# Altium integrated library Resistors_CPF-0805.IntLib: 984 symbols (part 3 of 6)
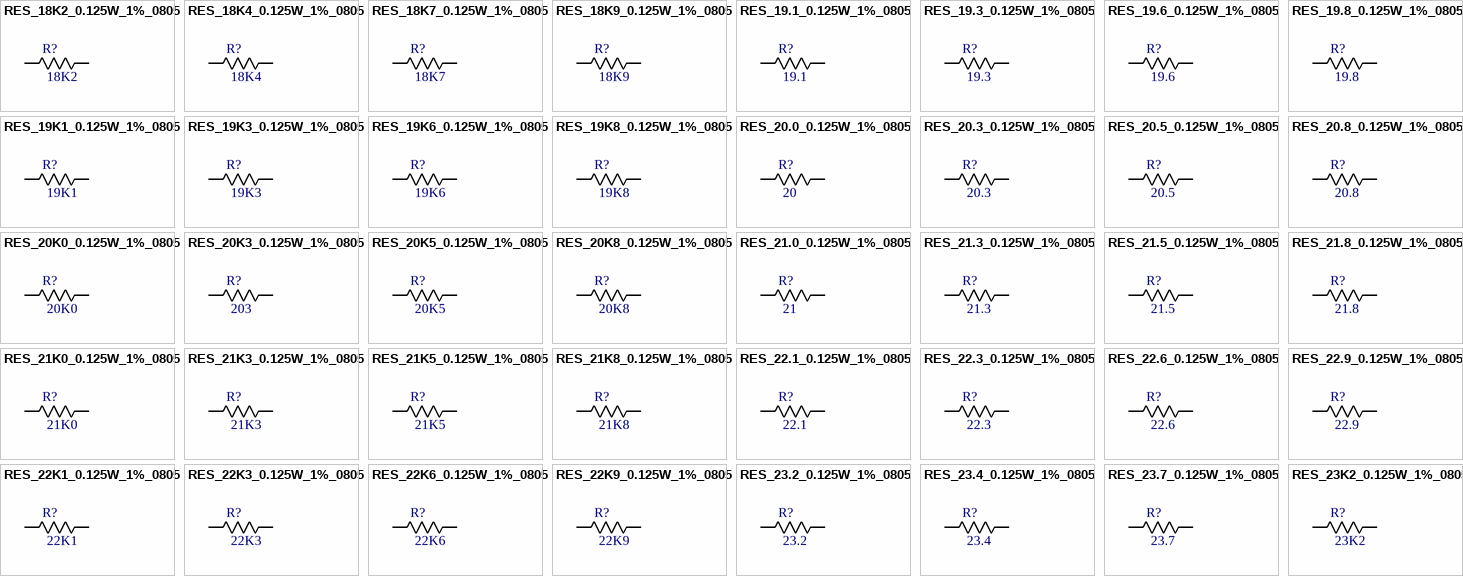
[diagram p26: symbols RES_18K2_0.125W_1%_0805 to RES_23K2_0.125W_1%_0805]

## RES_21.5_0.125W_1%_0805
designator R?, comment 21.5
Resistenza SMD TE Connectivity Film sottile; Voltage[V]: 100; Tollerance[%]: 0.1; Serie: CPF; Vendor: TE Connectivity; Type: Resistors; Package: 0805; Power[W]: 0.1; Value[OHM ]: 21.5
footprint RES_0816_SUS(My_MAXI)
pins: 1, 2

## RES_21.8_0.125W_1%_0805
designator R?, comment 21.8
Resistenza SMD TE Connectivity Film sottile; Voltage[V]: 100; Tollerance[%]: 0.1; Serie: CPF; Vendor: TE Connectivity; Type: Resistors; Package: 0805; Power[W]: 0.1; Value[OHM ]: 21.8
footprint RES_0816_SUS(My_MAXI)
pins: 1, 2

## RES_21K0_0.125W_1%_0805
designator R?, comment 21K0
Resistenza SMD TE Connectivity Film sottile; Voltage[V]: 100; Tollerance[%]: 0.1; Serie: CPF; Vendor: TE Connectivity; Type: Resistors; Package: 0805; Power[W]: 0.1; Value[OHM ]: 21K0
footprint RES_0816_SUS(My_MAXI)
pins: 1, 2

## RES_21K3_0.125W_1%_0805
designator R?, comment 21K3
Resistenza SMD TE Connectivity Film sottile; Voltage[V]: 100; Tollerance[%]: 0.1; Serie: CPF; Vendor: TE Connectivity; Type: Resistors; Package: 0805; Power[W]: 0.1; Value[OHM ]: 21K3
footprint RES_0816_SUS(My_MAXI)
pins: 1, 2

## RES_21K5_0.125W_1%_0805
designator R?, comment 21K5
Resistenza SMD TE Connectivity Film sottile; Voltage[V]: 100; Tollerance[%]: 0.1; Serie: CPF; Vendor: TE Connectivity; Type: Resistors; Package: 0805; Power[W]: 0.1; Value[OHM ]: 21K5
footprint RES_0816_SUS(My_MAXI)
pins: 1, 2

## RES_21K8_0.125W_1%_0805
designator R?, comment 21K8
Resistenza SMD TE Connectivity Film sottile; Voltage[V]: 100; Tollerance[%]: 0.1; Serie: CPF; Vendor: TE Connectivity; Type: Resistors; Package: 0805; Power[W]: 0.1; Value[OHM ]: 21K8
footprint RES_0816_SUS(My_MAXI)
pins: 1, 2

## RES_22.1_0.125W_1%_0805
designator R?, comment 22.1
Resistenza SMD TE Connectivity Film sottile; Voltage[V]: 100; Tollerance[%]: 0.1; Serie: CPF; Vendor: TE Connectivity; Type: Resistors; Package: 0805; Power[W]: 0.1; Value[OHM ]: 22.1
footprint RES_0816_SUS(My_MAXI)
pins: 1, 2

## RES_22.3_0.125W_1%_0805
designator R?, comment 22.3
Resistenza SMD TE Connectivity Film sottile; Voltage[V]: 100; Tollerance[%]: 0.1; Serie: CPF; Vendor: TE Connectivity; Type: Resistors; Package: 0805; Power[W]: 0.1; Value[OHM ]: 22.3
footprint RES_0816_SUS(My_MAXI)
pins: 1, 2

## RES_22.6_0.125W_1%_0805
designator R?, comment 22.6
Resistenza SMD TE Connectivity Film sottile; Voltage[V]: 100; Tollerance[%]: 0.1; Serie: CPF; Vendor: TE Connectivity; Type: Resistors; Package: 0805; Power[W]: 0.1; Value[OHM ]: 22.6
footprint RES_0816_SUS(My_MAXI)
pins: 1, 2

## RES_22.9_0.125W_1%_0805
designator R?, comment 22.9
Resistenza SMD TE Connectivity Film sottile; Voltage[V]: 100; Tollerance[%]: 0.1; Serie: CPF; Vendor: TE Connectivity; Type: Resistors; Package: 0805; Power[W]: 0.1; Value[OHM ]: 22.9
footprint RES_0816_SUS(My_MAXI)
pins: 1, 2

## RES_22K1_0.125W_1%_0805
designator R?, comment 22K1
Resistenza SMD TE Connectivity Film sottile; Voltage[V]: 100; Tollerance[%]: 0.1; Serie: CPF; Vendor: TE Connectivity; Type: Resistors; Package: 0805; Power[W]: 0.1; Value[OHM ]: 22K1
footprint RES_0816_SUS(My_MAXI)
pins: 1, 2

## RES_22K3_0.125W_1%_0805
designator R?, comment 22K3
Resistenza SMD TE Connectivity Film sottile; Voltage[V]: 100; Tollerance[%]: 0.1; Serie: CPF; Vendor: TE Connectivity; Type: Resistors; Package: 0805; Power[W]: 0.1; Value[OHM ]: 22K3
footprint RES_0816_SUS(My_MAXI)
pins: 1, 2

## RES_22K6_0.125W_1%_0805
designator R?, comment 22K6
Resistenza SMD TE Connectivity Film sottile; Voltage[V]: 100; Tollerance[%]: 0.1; Serie: CPF; Vendor: TE Connectivity; Type: Resistors; Package: 0805; Power[W]: 0.1; Value[OHM ]: 22K6
footprint RES_0816_SUS(My_MAXI)
pins: 1, 2

## RES_22K9_0.125W_1%_0805
designator R?, comment 22K9
Resistenza SMD TE Connectivity Film sottile; Voltage[V]: 100; Tollerance[%]: 0.1; Serie: CPF; Vendor: TE Connectivity; Type: Resistors; Package: 0805; Power[W]: 0.1; Value[OHM ]: 22K9
footprint RES_0816_SUS(My_MAXI)
pins: 1, 2

## RES_23.2_0.125W_1%_0805
designator R?, comment 23.2
Resistenza SMD TE Connectivity Film sottile; Voltage[V]: 100; Tollerance[%]: 0.1; Serie: CPF; Vendor: TE Connectivity; Type: Resistors; Package: 0805; Power[W]: 0.1; Value[OHM ]: 23.2
footprint RES_0816_SUS(My_MAXI)
pins: 1, 2

## RES_23.4_0.125W_1%_0805
designator R?, comment 23.4
Resistenza SMD TE Connectivity Film sottile; Voltage[V]: 100; Tollerance[%]: 0.1; Serie: CPF; Vendor: TE Connectivity; Type: Resistors; Package: 0805; Power[W]: 0.1; Value[OHM ]: 23.4
footprint RES_0816_SUS(My_MAXI)
pins: 1, 2

## RES_23.7_0.125W_1%_0805
designator R?, comment 23.7
Resistenza SMD TE Connectivity Film sottile; Voltage[V]: 100; Tollerance[%]: 0.1; Serie: CPF; Vendor: TE Connectivity; Type: Resistors; Package: 0805; Power[W]: 0.1; Value[OHM ]: 23.7
footprint RES_0816_SUS(My_MAXI)
pins: 1, 2

## RES_23K2_0.125W_1%_0805
designator R?, comment 23K2
Resistenza SMD TE Connectivity Film sottile; Voltage[V]: 100; Tollerance[%]: 0.1; Serie: CPF; Vendor: TE Connectivity; Type: Resistors; Package: 0805; Power[W]: 0.1; Value[OHM ]: 23K2
footprint RES_0816_SUS(My_MAXI)
pins: 1, 2

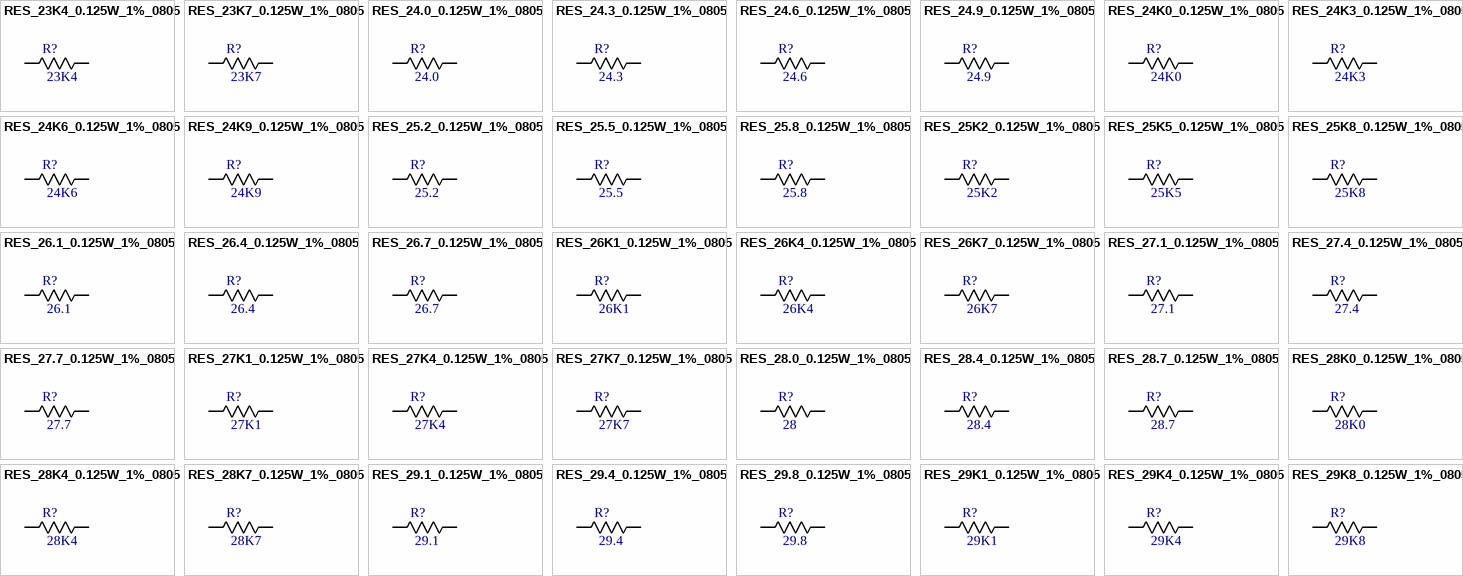
[diagram p9: symbols RES_23K4_0.125W_1%_0805 to RES_29K8_0.125W_1%_0805]

## RES_23K4_0.125W_1%_0805
designator R?, comment 23K4
Resistenza SMD TE Connectivity Film sottile; Voltage[V]: 100; Tollerance[%]: 0.1; Serie: CPF; Vendor: TE Connectivity; Type: Resistors; Package: 0805; Power[W]: 0.1; Value[OHM ]: 23K4
footprint RES_0816_SUS(My_MAXI)
pins: 1, 2

## RES_23K7_0.125W_1%_0805
designator R?, comment 23K7
Resistenza SMD TE Connectivity Film sottile; Voltage[V]: 100; Tollerance[%]: 0.1; Serie: CPF; Vendor: TE Connectivity; Type: Resistors; Package: 0805; Power[W]: 0.1; Value[OHM ]: 23K7
footprint RES_0816_SUS(My_MAXI)
pins: 1, 2

## RES_24.0_0.125W_1%_0805
designator R?, comment 24.0
Resistenza SMD TE Connectivity Film sottile; Voltage[V]: 100; Tollerance[%]: 0.1; Serie: CPF; Vendor: TE Connectivity; Type: Resistors; Package: 0805; Power[W]: 0.1; Value[OHM ]: 24.0
footprint RES_0816_SUS(My_MAXI)
pins: 1, 2

## RES_24.3_0.125W_1%_0805
designator R?, comment 24.3
Resistenza SMD TE Connectivity Film sottile; Voltage[V]: 100; Tollerance[%]: 0.1; Serie: CPF; Vendor: TE Connectivity; Type: Resistors; Package: 0805; Power[W]: 0.1; Value[OHM ]: 24.3
footprint RES_0816_SUS(My_MAXI)
pins: 1, 2

## RES_24.6_0.125W_1%_0805
designator R?, comment 24.6
Resistenza SMD TE Connectivity Film sottile; Voltage[V]: 100; Tollerance[%]: 0.1; Serie: CPF; Vendor: TE Connectivity; Type: Resistors; Package: 0805; Power[W]: 0.1; Value[OHM ]: 24.6
footprint RES_0816_SUS(My_MAXI)
pins: 1, 2

## RES_24.9_0.125W_1%_0805
designator R?, comment 24.9
Resistenza SMD TE Connectivity Film sottile; Voltage[V]: 100; Tollerance[%]: 0.1; Serie: CPF; Vendor: TE Connectivity; Type: Resistors; Package: 0805; Power[W]: 0.1; Value[OHM ]: 24.9
footprint RES_0816_SUS(My_MAXI)
pins: 1, 2

## RES_24K0_0.125W_1%_0805
designator R?, comment 24K0
Resistenza SMD TE Connectivity Film sottile; Voltage[V]: 100; Tollerance[%]: 0.1; Serie: CPF; Vendor: TE Connectivity; Type: Resistors; Package: 0805; Power[W]: 0.1; Value[OHM ]: 24K0
footprint RES_0816_SUS(My_MAXI)
pins: 1, 2

## RES_24K3_0.125W_1%_0805
designator R?, comment 24K3
Resistenza SMD TE Connectivity Film sottile; Voltage[V]: 100; Tollerance[%]: 0.1; Serie: CPF; Vendor: TE Connectivity; Type: Resistors; Package: 0805; Power[W]: 0.1; Value[OHM ]: 24K3
footprint RES_0816_SUS(My_MAXI)
pins: 1, 2

## RES_24K6_0.125W_1%_0805
designator R?, comment 24K6
Resistenza SMD TE Connectivity Film sottile; Voltage[V]: 100; Tollerance[%]: 0.1; Serie: CPF; Vendor: TE Connectivity; Type: Resistors; Package: 0805; Power[W]: 0.1; Value[OHM ]: 24K6
footprint RES_0816_SUS(My_MAXI)
pins: 1, 2

## RES_24K9_0.125W_1%_0805
designator R?, comment 24K9
Resistenza SMD TE Connectivity Film sottile; Voltage[V]: 100; Tollerance[%]: 0.1; Serie: CPF; Vendor: TE Connectivity; Type: Resistors; Package: 0805; Power[W]: 0.1; Value[OHM ]: 24K9
footprint RES_0816_SUS(My_MAXI)
pins: 1, 2

## RES_25.2_0.125W_1%_0805
designator R?, comment 25.2
Resistenza SMD TE Connectivity Film sottile; Voltage[V]: 100; Tollerance[%]: 0.1; Serie: CPF; Vendor: TE Connectivity; Type: Resistors; Package: 0805; Power[W]: 0.1; Value[OHM ]: 25.2
footprint RES_0816_SUS(My_MAXI)
pins: 1, 2

## RES_25.5_0.125W_1%_0805
designator R?, comment 25.5
Resistenza SMD TE Connectivity Film sottile; Voltage[V]: 100; Tollerance[%]: 0.1; Serie: CPF; Vendor: TE Connectivity; Type: Resistors; Package: 0805; Power[W]: 0.1; Value[OHM ]: 25.5
footprint RES_0816_SUS(My_MAXI)
pins: 1, 2

## RES_25.8_0.125W_1%_0805
designator R?, comment 25.8
Resistenza SMD TE Connectivity Film sottile; Voltage[V]: 100; Tollerance[%]: 0.1; Serie: CPF; Vendor: TE Connectivity; Type: Resistors; Package: 0805; Power[W]: 0.1; Value[OHM ]: 25.8
footprint RES_0816_SUS(My_MAXI)
pins: 1, 2

## RES_25K2_0.125W_1%_0805
designator R?, comment 25K2
Resistenza SMD TE Connectivity Film sottile; Voltage[V]: 100; Tollerance[%]: 0.1; Serie: CPF; Vendor: TE Connectivity; Type: Resistors; Package: 0805; Power[W]: 0.1; Value[OHM ]: 25K2
footprint RES_0816_SUS(My_MAXI)
pins: 1, 2

## RES_25K5_0.125W_1%_0805
designator R?, comment 25K5
Resistenza SMD TE Connectivity Film sottile; Voltage[V]: 100; Tollerance[%]: 0.1; Serie: CPF; Vendor: TE Connectivity; Type: Resistors; Package: 0805; Power[W]: 0.1; Value[OHM ]: 25K5
footprint RES_0816_SUS(My_MAXI)
pins: 1, 2

## RES_25K8_0.125W_1%_0805
designator R?, comment 25K8
Resistenza SMD TE Connectivity Film sottile; Voltage[V]: 100; Tollerance[%]: 0.1; Serie: CPF; Vendor: TE Connectivity; Type: Resistors; Package: 0805; Power[W]: 0.1; Value[OHM ]: 25K8
footprint RES_0816_SUS(My_MAXI)
pins: 1, 2

## RES_26.1_0.125W_1%_0805
designator R?, comment 26.1
Resistenza SMD TE Connectivity Film sottile; Voltage[V]: 100; Tollerance[%]: 0.1; Serie: CPF; Vendor: TE Connectivity; Type: Resistors; Package: 0805; Power[W]: 0.1; Value[OHM ]: 26.1
footprint RES_0816_SUS(My_MAXI)
pins: 1, 2

## RES_26.4_0.125W_1%_0805
designator R?, comment 26.4
Resistenza SMD TE Connectivity Film sottile; Voltage[V]: 100; Tollerance[%]: 0.1; Serie: CPF; Vendor: TE Connectivity; Type: Resistors; Package: 0805; Power[W]: 0.1; Value[OHM ]: 26.4
footprint RES_0816_SUS(My_MAXI)
pins: 1, 2

## RES_26.7_0.125W_1%_0805
designator R?, comment 26.7
Resistenza SMD TE Connectivity Film sottile; Voltage[V]: 100; Tollerance[%]: 0.1; Serie: CPF; Vendor: TE Connectivity; Type: Resistors; Package: 0805; Power[W]: 0.1; Value[OHM ]: 26.7
footprint RES_0816_SUS(My_MAXI)
pins: 1, 2

## RES_26K1_0.125W_1%_0805
designator R?, comment 26K1
Resistenza SMD TE Connectivity Film sottile; Voltage[V]: 100; Tollerance[%]: 0.1; Serie: CPF; Vendor: TE Connectivity; Type: Resistors; Package: 0805; Power[W]: 0.1; Value[OHM ]: 26K1
footprint RES_0816_SUS(My_MAXI)
pins: 1, 2

## RES_26K4_0.125W_1%_0805
designator R?, comment 26K4
Resistenza SMD TE Connectivity Film sottile; Voltage[V]: 100; Tollerance[%]: 0.1; Serie: CPF; Vendor: TE Connectivity; Type: Resistors; Package: 0805; Power[W]: 0.1; Value[OHM ]: 26K4
footprint RES_0816_SUS(My_MAXI)
pins: 1, 2

## RES_26K7_0.125W_1%_0805
designator R?, comment 26K7
Resistenza SMD TE Connectivity Film sottile; Voltage[V]: 100; Tollerance[%]: 0.1; Serie: CPF; Vendor: TE Connectivity; Type: Resistors; Package: 0805; Power[W]: 0.1; Value[OHM ]: 26K7
footprint RES_0816_SUS(My_MAXI)
pins: 1, 2

## RES_27.1_0.125W_1%_0805
designator R?, comment 27.1
Resistenza SMD TE Connectivity Film sottile; Voltage[V]: 100; Tollerance[%]: 0.1; Serie: CPF; Vendor: TE Connectivity; Type: Resistors; Package: 0805; Power[W]: 0.1; Value[OHM ]: 27.1
footprint RES_0816_SUS(My_MAXI)
pins: 1, 2

## RES_27.4_0.125W_1%_0805
designator R?, comment 27.4
Resistenza SMD TE Connectivity Film sottile; Voltage[V]: 100; Tollerance[%]: 0.1; Serie: CPF; Vendor: TE Connectivity; Type: Resistors; Package: 0805; Power[W]: 0.1; Value[OHM ]: 27.4
footprint RES_0816_SUS(My_MAXI)
pins: 1, 2

## RES_27.7_0.125W_1%_0805
designator R?, comment 27.7
Resistenza SMD TE Connectivity Film sottile; Voltage[V]: 100; Tollerance[%]: 0.1; Serie: CPF; Vendor: TE Connectivity; Type: Resistors; Package: 0805; Power[W]: 0.1; Value[OHM ]: 27.7
footprint RES_0816_SUS(My_MAXI)
pins: 1, 2

## RES_27K1_0.125W_1%_0805
designator R?, comment 27K1
Resistenza SMD TE Connectivity Film sottile; Voltage[V]: 100; Tollerance[%]: 0.1; Serie: CPF; Vendor: TE Connectivity; Type: Resistors; Package: 0805; Power[W]: 0.1; Value[OHM ]: 27K1
footprint RES_0816_SUS(My_MAXI)
pins: 1, 2

## RES_27K4_0.125W_1%_0805
designator R?, comment 27K4
Resistenza SMD TE Connectivity Film sottile; Voltage[V]: 100; Tollerance[%]: 0.1; Serie: CPF; Vendor: TE Connectivity; Type: Resistors; Package: 0805; Power[W]: 0.1; Value[OHM ]: 27K4
footprint RES_0816_SUS(My_MAXI)
pins: 1, 2

## RES_27K7_0.125W_1%_0805
designator R?, comment 27K7
Resistenza SMD TE Connectivity Film sottile; Voltage[V]: 100; Tollerance[%]: 0.1; Serie: CPF; Vendor: TE Connectivity; Type: Resistors; Package: 0805; Power[W]: 0.1; Value[OHM ]: 27K7
footprint RES_0816_SUS(My_MAXI)
pins: 1, 2

## RES_28.0_0.125W_1%_0805
designator R?, comment 28
Resistenza SMD TE Connectivity Film sottile; Voltage[V]: 100; Tollerance[%]: 0.1; Serie: CPF; Vendor: TE Connectivity; Type: Resistors; Package: 0805; Power[W]: 0.1; Value[OHM ]: 28
footprint RES_0816_SUS(My_MAXI)
pins: 1, 2

## RES_28.4_0.125W_1%_0805
designator R?, comment 28.4
Resistenza SMD TE Connectivity Film sottile; Voltage[V]: 100; Tollerance[%]: 0.1; Serie: CPF; Vendor: TE Connectivity; Type: Resistors; Package: 0805; Power[W]: 0.1; Value[OHM ]: 28.4
footprint RES_0816_SUS(My_MAXI)
pins: 1, 2

## RES_28.7_0.125W_1%_0805
designator R?, comment 28.7
Resistenza SMD TE Connectivity Film sottile; Voltage[V]: 100; Tollerance[%]: 0.1; Serie: CPF; Vendor: TE Connectivity; Type: Resistors; Package: 0805; Power[W]: 0.1; Value[OHM ]: 28.7
footprint RES_0816_SUS(My_MAXI)
pins: 1, 2

## RES_28K0_0.125W_1%_0805
designator R?, comment 28K0
Resistenza SMD TE Connectivity Film sottile; Voltage[V]: 100; Tollerance[%]: 0.1; Serie: CPF; Vendor: TE Connectivity; Type: Resistors; Package: 0805; Power[W]: 0.1; Value[OHM ]: 28K0
footprint RES_0816_SUS(My_MAXI)
pins: 1, 2

## RES_28K4_0.125W_1%_0805
designator R?, comment 28K4
Resistenza SMD TE Connectivity Film sottile; Voltage[V]: 100; Tollerance[%]: 0.1; Serie: CPF; Vendor: TE Connectivity; Type: Resistors; Package: 0805; Power[W]: 0.1; Value[OHM ]: 28K4
footprint RES_0816_SUS(My_MAXI)
pins: 1, 2

## RES_28K7_0.125W_1%_0805
designator R?, comment 28K7
Resistenza SMD TE Connectivity Film sottile; Voltage[V]: 100; Tollerance[%]: 0.1; Serie: CPF; Vendor: TE Connectivity; Type: Resistors; Package: 0805; Power[W]: 0.1; Value[OHM ]: 28K7
footprint RES_0816_SUS(My_MAXI)
pins: 1, 2

## RES_29.1_0.125W_1%_0805
designator R?, comment 29.1
Resistenza SMD TE Connectivity Film sottile; Voltage[V]: 100; Tollerance[%]: 0.1; Serie: CPF; Vendor: TE Connectivity; Type: Resistors; Package: 0805; Power[W]: 0.1; Value[OHM ]: 29.1
footprint RES_0816_SUS(My_MAXI)
pins: 1, 2

## RES_29.4_0.125W_1%_0805
designator R?, comment 29.4
Resistenza SMD TE Connectivity Film sottile; Voltage[V]: 100; Tollerance[%]: 0.1; Serie: CPF; Vendor: TE Connectivity; Type: Resistors; Package: 0805; Power[W]: 0.1; Value[OHM ]: 29.4
footprint RES_0816_SUS(My_MAXI)
pins: 1, 2

## RES_29.8_0.125W_1%_0805
designator R?, comment 29.8
Resistenza SMD TE Connectivity Film sottile; Voltage[V]: 100; Tollerance[%]: 0.1; Serie: CPF; Vendor: TE Connectivity; Type: Resistors; Package: 0805; Power[W]: 0.1; Value[OHM ]: 29.8
footprint RES_0816_SUS(My_MAXI)
pins: 1, 2

## RES_29K1_0.125W_1%_0805
designator R?, comment 29K1
Resistenza SMD TE Connectivity Film sottile; Voltage[V]: 100; Tollerance[%]: 0.1; Serie: CPF; Vendor: TE Connectivity; Type: Resistors; Package: 0805; Power[W]: 0.1; Value[OHM ]: 29K1
footprint RES_0816_SUS(My_MAXI)
pins: 1, 2

## RES_29K4_0.125W_1%_0805
designator R?, comment 29K4
Resistenza SMD TE Connectivity Film sottile; Voltage[V]: 100; Tollerance[%]: 0.1; Serie: CPF; Vendor: TE Connectivity; Type: Resistors; Package: 0805; Power[W]: 0.1; Value[OHM ]: 29K4
footprint RES_0816_SUS(My_MAXI)
pins: 1, 2

## RES_29K8_0.125W_1%_0805
designator R?, comment 29K8
Resistenza SMD TE Connectivity Film sottile; Voltage[V]: 100; Tollerance[%]: 0.1; Serie: CPF; Vendor: TE Connectivity; Type: Resistors; Package: 0805; Power[W]: 0.1; Value[OHM ]: 29K8
footprint RES_0816_SUS(My_MAXI)
pins: 1, 2

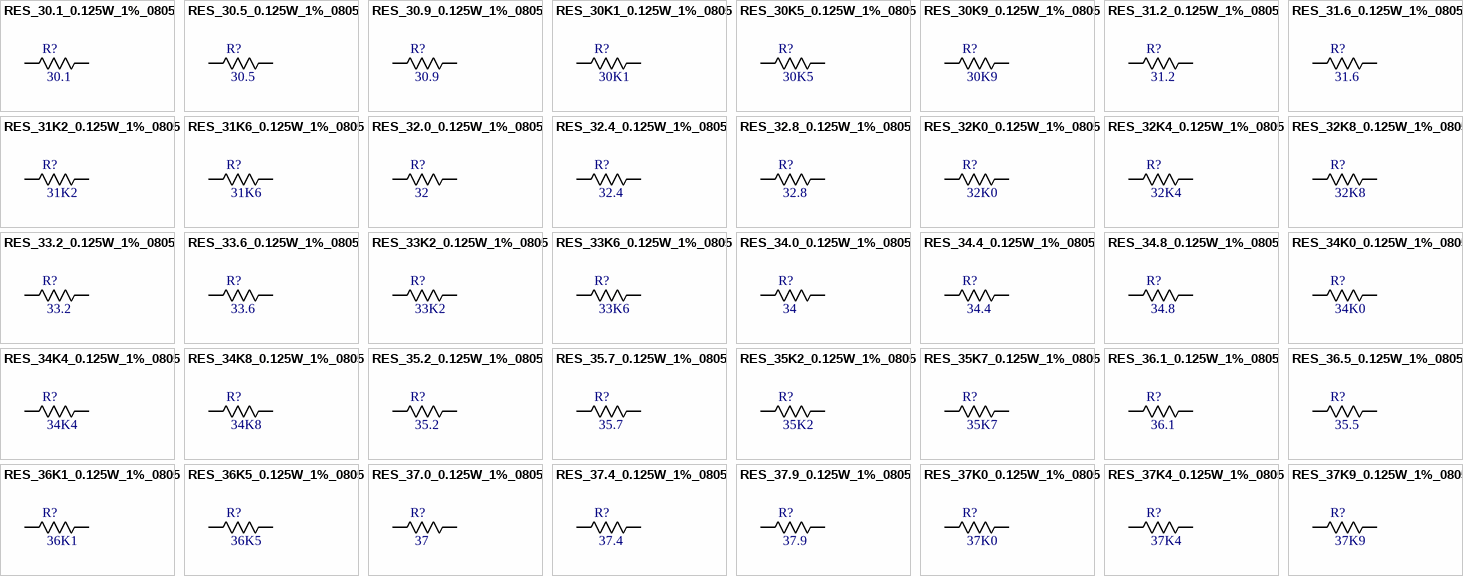
[diagram p10: symbols RES_30.1_0.125W_1%_0805 to RES_37K9_0.125W_1%_0805]

## RES_30.1_0.125W_1%_0805
designator R?, comment 30.1
Resistenza SMD TE Connectivity Film sottile; Voltage[V]: 100; Tollerance[%]: 0.1; Serie: CPF; Vendor: TE Connectivity; Type: Resistors; Package: 0805; Power[W]: 0.1; Value[OHM ]: 30.1
footprint RES_0816_SUS(My_MAXI)
pins: 1, 2

## RES_30.5_0.125W_1%_0805
designator R?, comment 30.5
Resistenza SMD TE Connectivity Film sottile; Voltage[V]: 100; Tollerance[%]: 0.1; Serie: CPF; Vendor: TE Connectivity; Type: Resistors; Package: 0805; Power[W]: 0.1; Value[OHM ]: 30.5
footprint RES_0816_SUS(My_MAXI)
pins: 1, 2

## RES_30.9_0.125W_1%_0805
designator R?, comment 30.9
Resistenza SMD TE Connectivity Film sottile; Voltage[V]: 100; Tollerance[%]: 0.1; Serie: CPF; Vendor: TE Connectivity; Type: Resistors; Package: 0805; Power[W]: 0.1; Value[OHM ]: 30.9
footprint RES_0816_SUS(My_MAXI)
pins: 1, 2

## RES_30K1_0.125W_1%_0805
designator R?, comment 30K1
Resistenza SMD TE Connectivity Film sottile; Voltage[V]: 100; Tollerance[%]: 0.1; Serie: CPF; Vendor: TE Connectivity; Type: Resistors; Package: 0805; Power[W]: 0.1; Value[OHM ]: 30K1
footprint RES_0816_SUS(My_MAXI)
pins: 1, 2

## RES_30K5_0.125W_1%_0805
designator R?, comment 30K5
Resistenza SMD TE Connectivity Film sottile; Voltage[V]: 100; Tollerance[%]: 0.1; Serie: CPF; Vendor: TE Connectivity; Type: Resistors; Package: 0805; Power[W]: 0.1; Value[OHM ]: 30K5
footprint RES_0816_SUS(My_MAXI)
pins: 1, 2

## RES_30K9_0.125W_1%_0805
designator R?, comment 30K9
Resistenza SMD TE Connectivity Film sottile; Voltage[V]: 100; Tollerance[%]: 0.1; Serie: CPF; Vendor: TE Connectivity; Type: Resistors; Package: 0805; Power[W]: 0.1; Value[OHM ]: 30K9
footprint RES_0816_SUS(My_MAXI)
pins: 1, 2

## RES_31.2_0.125W_1%_0805
designator R?, comment 31.2
Resistenza SMD TE Connectivity Film sottile; Voltage[V]: 100; Tollerance[%]: 0.1; Serie: CPF; Vendor: TE Connectivity; Type: Resistors; Package: 0805; Power[W]: 0.1; Value[OHM ]: 31.2
footprint RES_0816_SUS(My_MAXI)
pins: 1, 2

## RES_31.6_0.125W_1%_0805
designator R?, comment 31.6
Resistenza SMD TE Connectivity Film sottile; Voltage[V]: 100; Tollerance[%]: 0.1; Serie: CPF; Vendor: TE Connectivity; Type: Resistors; Package: 0805; Power[W]: 0.1; Value[OHM ]: 31.6
footprint RES_0816_SUS(My_MAXI)
pins: 1, 2

## RES_31K2_0.125W_1%_0805
designator R?, comment 31K2
Resistenza SMD TE Connectivity Film sottile; Voltage[V]: 100; Tollerance[%]: 0.1; Serie: CPF; Vendor: TE Connectivity; Type: Resistors; Package: 0805; Power[W]: 0.1; Value[OHM ]: 31K2
footprint RES_0816_SUS(My_MAXI)
pins: 1, 2

## RES_31K6_0.125W_1%_0805
designator R?, comment 31K6
Resistenza SMD TE Connectivity Film sottile; Voltage[V]: 100; Tollerance[%]: 0.1; Serie: CPF; Vendor: TE Connectivity; Type: Resistors; Package: 0805; Power[W]: 0.1; Value[OHM ]: 31K6
footprint RES_0816_SUS(My_MAXI)
pins: 1, 2

## RES_32.0_0.125W_1%_0805
designator R?, comment 32
Resistenza SMD TE Connectivity Film sottile; Voltage[V]: 100; Tollerance[%]: 0.1; Serie: CPF; Vendor: TE Connectivity; Type: Resistors; Package: 0805; Power[W]: 0.1; Value[OHM ]: 32
footprint RES_0816_SUS(My_MAXI)
pins: 1, 2

## RES_32.4_0.125W_1%_0805
designator R?, comment 32.4
Resistenza SMD TE Connectivity Film sottile; Voltage[V]: 100; Tollerance[%]: 0.1; Serie: CPF; Vendor: TE Connectivity; Type: Resistors; Package: 0805; Power[W]: 0.1; Value[OHM ]: 32.4
footprint RES_0816_SUS(My_MAXI)
pins: 1, 2

## RES_32.8_0.125W_1%_0805
designator R?, comment 32.8
Resistenza SMD TE Connectivity Film sottile; Voltage[V]: 100; Tollerance[%]: 0.1; Serie: CPF; Vendor: TE Connectivity; Type: Resistors; Package: 0805; Power[W]: 0.1; Value[OHM ]: 32.8
footprint RES_0816_SUS(My_MAXI)
pins: 1, 2

## RES_32K0_0.125W_1%_0805
designator R?, comment 32K0
Resistenza SMD TE Connectivity Film sottile; Voltage[V]: 100; Tollerance[%]: 0.1; Serie: CPF; Vendor: TE Connectivity; Type: Resistors; Package: 0805; Power[W]: 0.1; Value[OHM ]: 32K0
footprint RES_0816_SUS(My_MAXI)
pins: 1, 2

## RES_32K4_0.125W_1%_0805
designator R?, comment 32K4
Resistenza SMD TE Connectivity Film sottile; Voltage[V]: 100; Tollerance[%]: 0.1; Serie: CPF; Vendor: TE Connectivity; Type: Resistors; Package: 0805; Power[W]: 0.1; Value[OHM ]: 32K4
footprint RES_0816_SUS(My_MAXI)
pins: 1, 2

## RES_32K8_0.125W_1%_0805
designator R?, comment 32K8
Resistenza SMD TE Connectivity Film sottile; Voltage[V]: 100; Tollerance[%]: 0.1; Serie: CPF; Vendor: TE Connectivity; Type: Resistors; Package: 0805; Power[W]: 0.1; Value[OHM ]: 32K8
footprint RES_0816_SUS(My_MAXI)
pins: 1, 2

## RES_33.2_0.125W_1%_0805
designator R?, comment 33.2
Resistenza SMD TE Connectivity Film sottile; Voltage[V]: 100; Tollerance[%]: 0.1; Serie: CPF; Vendor: TE Connectivity; Type: Resistors; Package: 0805; Power[W]: 0.1; Value[OHM ]: 33.2
footprint RES_0816_SUS(My_MAXI)
pins: 1, 2

## RES_33.6_0.125W_1%_0805
designator R?, comment 33.6
Resistenza SMD TE Connectivity Film sottile; Voltage[V]: 100; Tollerance[%]: 0.1; Serie: CPF; Vendor: TE Connectivity; Type: Resistors; Package: 0805; Power[W]: 0.1; Value[OHM ]: 33.6
footprint RES_0816_SUS(My_MAXI)
pins: 1, 2

## RES_33K2_0.125W_1%_0805
designator R?, comment 33K2
Resistenza SMD TE Connectivity Film sottile; Voltage[V]: 100; Tollerance[%]: 0.1; Serie: CPF; Vendor: TE Connectivity; Type: Resistors; Package: 0805; Power[W]: 0.1; Value[OHM ]: 33K2
footprint RES_0816_SUS(My_MAXI)
pins: 1, 2

## RES_33K6_0.125W_1%_0805
designator R?, comment 33K6
Resistenza SMD TE Connectivity Film sottile; Voltage[V]: 100; Tollerance[%]: 0.1; Serie: CPF; Vendor: TE Connectivity; Type: Resistors; Package: 0805; Power[W]: 0.1; Value[OHM ]: 33K6
footprint RES_0816_SUS(My_MAXI)
pins: 1, 2

## RES_34.0_0.125W_1%_0805
designator R?, comment 34
Resistenza SMD TE Connectivity Film sottile; Voltage[V]: 100; Tollerance[%]: 0.1; Serie: CPF; Vendor: TE Connectivity; Type: Resistors; Package: 0805; Power[W]: 0.1; Value[OHM ]: 34
footprint RES_0816_SUS(My_MAXI)
pins: 1, 2

## RES_34.4_0.125W_1%_0805
designator R?, comment 34.4
Resistenza SMD TE Connectivity Film sottile; Voltage[V]: 100; Tollerance[%]: 0.1; Serie: CPF; Vendor: TE Connectivity; Type: Resistors; Package: 0805; Power[W]: 0.1; Value[OHM ]: 34.4
footprint RES_0816_SUS(My_MAXI)
pins: 1, 2

## RES_34.8_0.125W_1%_0805
designator R?, comment 34.8
Resistenza SMD TE Connectivity Film sottile; Voltage[V]: 100; Tollerance[%]: 0.1; Serie: CPF; Vendor: TE Connectivity; Type: Resistors; Package: 0805; Power[W]: 0.1; Value[OHM ]: 34.8
footprint RES_0816_SUS(My_MAXI)
pins: 1, 2

## RES_34K0_0.125W_1%_0805
designator R?, comment 34K0
Resistenza SMD TE Connectivity Film sottile; Voltage[V]: 100; Tollerance[%]: 0.1; Serie: CPF; Vendor: TE Connectivity; Type: Resistors; Package: 0805; Power[W]: 0.1; Value[OHM ]: 34K0
footprint RES_0816_SUS(My_MAXI)
pins: 1, 2

## RES_34K4_0.125W_1%_0805
designator R?, comment 34K4
Resistenza SMD TE Connectivity Film sottile; Voltage[V]: 100; Tollerance[%]: 0.1; Serie: CPF; Vendor: TE Connectivity; Type: Resistors; Package: 0805; Power[W]: 0.1; Value[OHM ]: 34K4
footprint RES_0816_SUS(My_MAXI)
pins: 1, 2

## RES_34K8_0.125W_1%_0805
designator R?, comment 34K8
Resistenza SMD TE Connectivity Film sottile; Voltage[V]: 100; Tollerance[%]: 0.1; Serie: CPF; Vendor: TE Connectivity; Type: Resistors; Package: 0805; Power[W]: 0.1; Value[OHM ]: 34K8
footprint RES_0816_SUS(My_MAXI)
pins: 1, 2

## RES_35.2_0.125W_1%_0805
designator R?, comment 35.2
Resistenza SMD TE Connectivity Film sottile; Voltage[V]: 100; Tollerance[%]: 0.1; Serie: CPF; Vendor: TE Connectivity; Type: Resistors; Package: 0805; Power[W]: 0.1; Value[OHM ]: 35.2
footprint RES_0816_SUS(My_MAXI)
pins: 1, 2

## RES_35.7_0.125W_1%_0805
designator R?, comment 35.7
Resistenza SMD TE Connectivity Film sottile; Voltage[V]: 100; Tollerance[%]: 0.1; Serie: CPF; Vendor: TE Connectivity; Type: Resistors; Package: 0805; Power[W]: 0.1; Value[OHM ]: 35.7
footprint RES_0816_SUS(My_MAXI)
pins: 1, 2

## RES_35K2_0.125W_1%_0805
designator R?, comment 35K2
Resistenza SMD TE Connectivity Film sottile; Voltage[V]: 100; Tollerance[%]: 0.1; Serie: CPF; Vendor: TE Connectivity; Type: Resistors; Package: 0805; Power[W]: 0.1; Value[OHM ]: 35K2
footprint RES_0816_SUS(My_MAXI)
pins: 1, 2

## RES_35K7_0.125W_1%_0805
designator R?, comment 35K7
Resistenza SMD TE Connectivity Film sottile; Voltage[V]: 100; Tollerance[%]: 0.1; Serie: CPF; Vendor: TE Connectivity; Type: Resistors; Package: 0805; Power[W]: 0.1; Value[OHM ]: 35K7
footprint RES_0816_SUS(My_MAXI)
pins: 1, 2

## RES_36.1_0.125W_1%_0805
designator R?, comment 36.1
Resistenza SMD TE Connectivity Film sottile; Voltage[V]: 100; Tollerance[%]: 0.1; Serie: CPF; Vendor: TE Connectivity; Type: Resistors; Package: 0805; Power[W]: 0.1; Value[OHM ]: 36.1
footprint RES_0816_SUS(My_MAXI)
pins: 1, 2

## RES_36.5_0.125W_1%_0805
designator R?, comment 35.5
Resistenza SMD TE Connectivity Film sottile; Voltage[V]: 100; Tollerance[%]: 0.1; Serie: CPF; Vendor: TE Connectivity; Type: Resistors; Package: 0805; Power[W]: 0.1; Value[OHM ]: 35.5
footprint RES_0816_SUS(My_MAXI)
pins: 1, 2

## RES_36K1_0.125W_1%_0805
designator R?, comment 36K1
Resistenza SMD TE Connectivity Film sottile; Voltage[V]: 100; Tollerance[%]: 0.1; Serie: CPF; Vendor: TE Connectivity; Type: Resistors; Package: 0805; Power[W]: 0.1; Value[OHM ]: 36K1
footprint RES_0816_SUS(My_MAXI)
pins: 1, 2

## RES_36K5_0.125W_1%_0805
designator R?, comment 36K5
Resistenza SMD TE Connectivity Film sottile; Voltage[V]: 100; Tollerance[%]: 0.1; Serie: CPF; Vendor: TE Connectivity; Type: Resistors; Package: 0805; Power[W]: 0.1; Value[OHM ]: 36K5
footprint RES_0816_SUS(My_MAXI)
pins: 1, 2

## RES_37.0_0.125W_1%_0805
designator R?, comment 37
Resistenza SMD TE Connectivity Film sottile; Voltage[V]: 100; Tollerance[%]: 0.1; Serie: CPF; Vendor: TE Connectivity; Type: Resistors; Package: 0805; Power[W]: 0.1; Value[OHM ]: 37
footprint RES_0816_SUS(My_MAXI)
pins: 1, 2

## RES_37.4_0.125W_1%_0805
designator R?, comment 37.4
Resistenza SMD TE Connectivity Film sottile; Voltage[V]: 100; Tollerance[%]: 0.1; Serie: CPF; Vendor: TE Connectivity; Type: Resistors; Package: 0805; Power[W]: 0.1; Value[OHM ]: 37.4
footprint RES_0816_SUS(My_MAXI)
pins: 1, 2

## RES_37.9_0.125W_1%_0805
designator R?, comment 37.9
Resistenza SMD TE Connectivity Film sottile; Voltage[V]: 100; Tollerance[%]: 0.1; Serie: CPF; Vendor: TE Connectivity; Type: Resistors; Package: 0805; Power[W]: 0.1; Value[OHM ]: 37.9
footprint RES_0816_SUS(My_MAXI)
pins: 1, 2

## RES_37K0_0.125W_1%_0805
designator R?, comment 37K0
Resistenza SMD TE Connectivity Film sottile; Voltage[V]: 100; Tollerance[%]: 0.1; Serie: CPF; Vendor: TE Connectivity; Type: Resistors; Package: 0805; Power[W]: 0.1; Value[OHM ]: 37K0
footprint RES_0816_SUS(My_MAXI)
pins: 1, 2

## RES_37K4_0.125W_1%_0805
designator R?, comment 37K4
Resistenza SMD TE Connectivity Film sottile; Voltage[V]: 100; Tollerance[%]: 0.1; Serie: CPF; Vendor: TE Connectivity; Type: Resistors; Package: 0805; Power[W]: 0.1; Value[OHM ]: 37K4
footprint RES_0816_SUS(My_MAXI)
pins: 1, 2

## RES_37K9_0.125W_1%_0805
designator R?, comment 37K9
Resistenza SMD TE Connectivity Film sottile; Voltage[V]: 100; Tollerance[%]: 0.1; Serie: CPF; Vendor: TE Connectivity; Type: Resistors; Package: 0805; Power[W]: 0.1; Value[OHM ]: 37K9
footprint RES_0816_SUS(My_MAXI)
pins: 1, 2

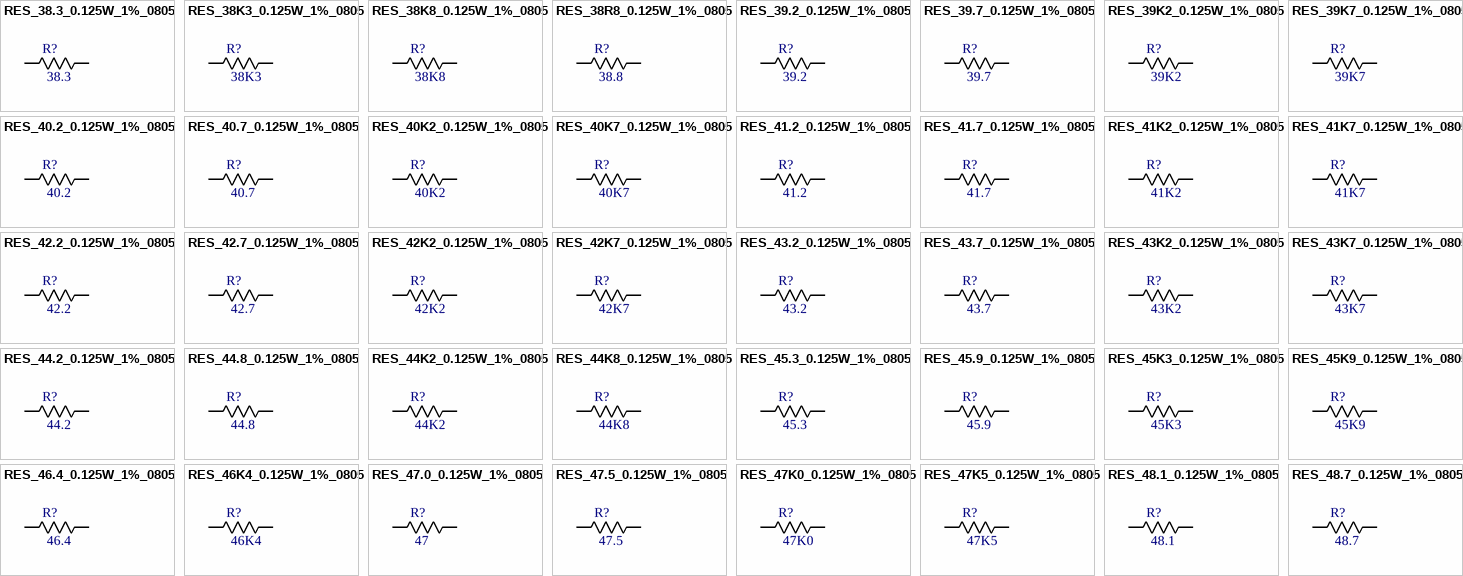
[diagram p11: symbols RES_38.3_0.125W_1%_0805 to RES_48.7_0.125W_1%_0805]

## RES_38.3_0.125W_1%_0805
designator R?, comment 38.3
Resistenza SMD TE Connectivity Film sottile; Voltage[V]: 100; Tollerance[%]: 0.1; Serie: CPF; Vendor: TE Connectivity; Type: Resistors; Package: 0805; Power[W]: 0.1; Value[OHM ]: 38.3
footprint RES_0816_SUS(My_MAXI)
pins: 1, 2

## RES_38K3_0.125W_1%_0805
designator R?, comment 38K3
Resistenza SMD TE Connectivity Film sottile; Voltage[V]: 100; Tollerance[%]: 0.1; Serie: CPF; Vendor: TE Connectivity; Type: Resistors; Package: 0805; Power[W]: 0.1; Value[OHM ]: 38K3
footprint RES_0816_SUS(My_MAXI)
pins: 1, 2

## RES_38K8_0.125W_1%_0805
designator R?, comment 38K8
Resistenza SMD TE Connectivity Film sottile; Voltage[V]: 100; Tollerance[%]: 0.1; Serie: CPF; Vendor: TE Connectivity; Type: Resistors; Package: 0805; Power[W]: 0.1; Value[OHM ]: 38K8
footprint RES_0816_SUS(My_MAXI)
pins: 1, 2

## RES_38R8_0.125W_1%_0805
designator R?, comment 38.8
Resistenza SMD TE Connectivity Film sottile; Voltage[V]: 100; Tollerance[%]: 0.1; Serie: CPF; Vendor: TE Connectivity; Type: Resistors; Package: 0805; Power[W]: 0.1; Value[OHM ]: 38.8
footprint RES_0816_SUS(My_MAXI)
pins: 1, 2

## RES_39.2_0.125W_1%_0805
designator R?, comment 39.2
Resistenza SMD TE Connectivity Film sottile; Voltage[V]: 100; Tollerance[%]: 0.1; Serie: CPF; Vendor: TE Connectivity; Type: Resistors; Package: 0805; Power[W]: 0.1; Value[OHM ]: 39.2
footprint RES_0816_SUS(My_MAXI)
pins: 1, 2

## RES_39.7_0.125W_1%_0805
designator R?, comment 39.7
Resistenza SMD TE Connectivity Film sottile; Voltage[V]: 100; Tollerance[%]: 0.1; Serie: CPF; Vendor: TE Connectivity; Type: Resistors; Package: 0805; Power[W]: 0.1; Value[OHM ]: 39.7
footprint RES_0816_SUS(My_MAXI)
pins: 1, 2

## RES_39K2_0.125W_1%_0805
designator R?, comment 39K2
Resistenza SMD TE Connectivity Film sottile; Voltage[V]: 100; Tollerance[%]: 0.1; Serie: CPF; Vendor: TE Connectivity; Type: Resistors; Package: 0805; Power[W]: 0.1; Value[OHM ]: 39K2
footprint RES_0816_SUS(My_MAXI)
pins: 1, 2

## RES_39K7_0.125W_1%_0805
designator R?, comment 39K7
Resistenza SMD TE Connectivity Film sottile; Voltage[V]: 100; Tollerance[%]: 0.1; Serie: CPF; Vendor: TE Connectivity; Type: Resistors; Package: 0805; Power[W]: 0.1; Value[OHM ]: 39K7
footprint RES_0816_SUS(My_MAXI)
pins: 1, 2

## RES_40.2_0.125W_1%_0805
designator R?, comment 40.2
Resistenza SMD TE Connectivity Film sottile; Voltage[V]: 100; Tollerance[%]: 0.1; Serie: CPF; Vendor: TE Connectivity; Type: Resistors; Package: 0805; Power[W]: 0.1; Value[OHM ]: 40.2
footprint RES_0816_SUS(My_MAXI)
pins: 1, 2

## RES_40.7_0.125W_1%_0805
designator R?, comment 40.7
Resistenza SMD TE Connectivity Film sottile; Voltage[V]: 100; Tollerance[%]: 0.1; Serie: CPF; Vendor: TE Connectivity; Type: Resistors; Package: 0805; Power[W]: 0.1; Value[OHM ]: 40.7
footprint RES_0816_SUS(My_MAXI)
pins: 1, 2

## RES_40K2_0.125W_1%_0805
designator R?, comment 40K2
Resistenza SMD TE Connectivity Film sottile; Voltage[V]: 100; Tollerance[%]: 0.1; Serie: CPF; Vendor: TE Connectivity; Type: Resistors; Package: 0805; Power[W]: 0.1; Value[OHM ]: 40K2
footprint RES_0816_SUS(My_MAXI)
pins: 1, 2

## RES_40K7_0.125W_1%_0805
designator R?, comment 40K7
Resistenza SMD TE Connectivity Film sottile; Voltage[V]: 100; Tollerance[%]: 0.1; Serie: CPF; Vendor: TE Connectivity; Type: Resistors; Package: 0805; Power[W]: 0.1; Value[OHM ]: 40K7
footprint RES_0816_SUS(My_MAXI)
pins: 1, 2

## RES_41.2_0.125W_1%_0805
designator R?, comment 41.2
Resistenza SMD TE Connectivity Film sottile; Voltage[V]: 100; Tollerance[%]: 0.1; Serie: CPF; Vendor: TE Connectivity; Type: Resistors; Package: 0805; Power[W]: 0.1; Value[OHM ]: 41.2
footprint RES_0816_SUS(My_MAXI)
pins: 1, 2

## RES_41.7_0.125W_1%_0805
designator R?, comment 41.7
Resistenza SMD TE Connectivity Film sottile; Voltage[V]: 100; Tollerance[%]: 0.1; Serie: CPF; Vendor: TE Connectivity; Type: Resistors; Package: 0805; Power[W]: 0.1; Value[OHM ]: 41.7
footprint RES_0816_SUS(My_MAXI)
pins: 1, 2

## RES_41K2_0.125W_1%_0805
designator R?, comment 41K2
Resistenza SMD TE Connectivity Film sottile; Voltage[V]: 100; Tollerance[%]: 0.1; Serie: CPF; Vendor: TE Connectivity; Type: Resistors; Package: 0805; Power[W]: 0.1; Value[OHM ]: 41K2
footprint RES_0816_SUS(My_MAXI)
pins: 1, 2

## RES_41K7_0.125W_1%_0805
designator R?, comment 41K7
Resistenza SMD TE Connectivity Film sottile; Voltage[V]: 100; Tollerance[%]: 0.1; Serie: CPF; Vendor: TE Connectivity; Type: Resistors; Package: 0805; Power[W]: 0.1; Value[OHM ]: 41K7
footprint RES_0816_SUS(My_MAXI)
pins: 1, 2

## RES_42.2_0.125W_1%_0805
designator R?, comment 42.2
Resistenza SMD TE Connectivity Film sottile; Voltage[V]: 100; Tollerance[%]: 0.1; Serie: CPF; Vendor: TE Connectivity; Type: Resistors; Package: 0805; Power[W]: 0.1; Value[OHM ]: 42.2
footprint RES_0816_SUS(My_MAXI)
pins: 1, 2

## RES_42.7_0.125W_1%_0805
designator R?, comment 42.7
Resistenza SMD TE Connectivity Film sottile; Voltage[V]: 100; Tollerance[%]: 0.1; Serie: CPF; Vendor: TE Connectivity; Type: Resistors; Package: 0805; Power[W]: 0.1; Value[OHM ]: 42.7
footprint RES_0816_SUS(My_MAXI)
pins: 1, 2

## RES_42K2_0.125W_1%_0805
designator R?, comment 42K2
Resistenza SMD TE Connectivity Film sottile; Voltage[V]: 100; Tollerance[%]: 0.1; Serie: CPF; Vendor: TE Connectivity; Type: Resistors; Package: 0805; Power[W]: 0.1; Value[OHM ]: 42K2
footprint RES_0816_SUS(My_MAXI)
pins: 1, 2

## RES_42K7_0.125W_1%_0805
designator R?, comment 42K7
Resistenza SMD TE Connectivity Film sottile; Voltage[V]: 100; Tollerance[%]: 0.1; Serie: CPF; Vendor: TE Connectivity; Type: Resistors; Package: 0805; Power[W]: 0.1; Value[OHM ]: 42K7
footprint RES_0816_SUS(My_MAXI)
pins: 1, 2

## RES_43.2_0.125W_1%_0805
designator R?, comment 43.2
Resistenza SMD TE Connectivity Film sottile; Voltage[V]: 100; Tollerance[%]: 0.1; Serie: CPF; Vendor: TE Connectivity; Type: Resistors; Package: 0805; Power[W]: 0.1; Value[OHM ]: 43.2
footprint RES_0816_SUS(My_MAXI)
pins: 1, 2

## RES_43.7_0.125W_1%_0805
designator R?, comment 43.7
Resistenza SMD TE Connectivity Film sottile; Voltage[V]: 100; Tollerance[%]: 0.1; Serie: CPF; Vendor: TE Connectivity; Type: Resistors; Package: 0805; Power[W]: 0.1; Value[OHM ]: 43.7
footprint RES_0816_SUS(My_MAXI)
pins: 1, 2

## RES_43K2_0.125W_1%_0805
designator R?, comment 43K2
Resistenza SMD TE Connectivity Film sottile; Voltage[V]: 100; Tollerance[%]: 0.1; Serie: CPF; Vendor: TE Connectivity; Type: Resistors; Package: 0805; Power[W]: 0.1; Value[OHM ]: 43K2
footprint RES_0816_SUS(My_MAXI)
pins: 1, 2

## RES_43K7_0.125W_1%_0805
designator R?, comment 43K7
Resistenza SMD TE Connectivity Film sottile; Voltage[V]: 100; Tollerance[%]: 0.1; Serie: CPF; Vendor: TE Connectivity; Type: Resistors; Package: 0805; Power[W]: 0.1; Value[OHM ]: 43K7
footprint RES_0816_SUS(My_MAXI)
pins: 1, 2

## RES_44.2_0.125W_1%_0805
designator R?, comment 44.2
Resistenza SMD TE Connectivity Film sottile; Voltage[V]: 100; Tollerance[%]: 0.1; Serie: CPF; Vendor: TE Connectivity; Type: Resistors; Package: 0805; Power[W]: 0.1; Value[OHM ]: 44.2
footprint RES_0816_SUS(My_MAXI)
pins: 1, 2

## RES_44.8_0.125W_1%_0805
designator R?, comment 44.8
Resistenza SMD TE Connectivity Film sottile; Voltage[V]: 100; Tollerance[%]: 0.1; Serie: CPF; Vendor: TE Connectivity; Type: Resistors; Package: 0805; Power[W]: 0.1; Value[OHM ]: 44.8
footprint RES_0816_SUS(My_MAXI)
pins: 1, 2

## RES_44K2_0.125W_1%_0805
designator R?, comment 44K2
Resistenza SMD TE Connectivity Film sottile; Voltage[V]: 100; Tollerance[%]: 0.1; Serie: CPF; Vendor: TE Connectivity; Type: Resistors; Package: 0805; Power[W]: 0.1; Value[OHM ]: 44K2
footprint RES_0816_SUS(My_MAXI)
pins: 1, 2

## RES_44K8_0.125W_1%_0805
designator R?, comment 44K8
Resistenza SMD TE Connectivity Film sottile; Voltage[V]: 100; Tollerance[%]: 0.1; Serie: CPF; Vendor: TE Connectivity; Type: Resistors; Package: 0805; Power[W]: 0.1; Value[OHM ]: 44K8
footprint RES_0816_SUS(My_MAXI)
pins: 1, 2

## RES_45.3_0.125W_1%_0805
designator R?, comment 45.3
Resistenza SMD TE Connectivity Film sottile; Voltage[V]: 100; Tollerance[%]: 0.1; Serie: CPF; Vendor: TE Connectivity; Type: Resistors; Package: 0805; Power[W]: 0.1; Value[OHM ]: 45.3
footprint RES_0816_SUS(My_MAXI)
pins: 1, 2

## RES_45.9_0.125W_1%_0805
designator R?, comment 45.9
Resistenza SMD TE Connectivity Film sottile; Voltage[V]: 100; Tollerance[%]: 0.1; Serie: CPF; Vendor: TE Connectivity; Type: Resistors; Package: 0805; Power[W]: 0.1; Value[OHM ]: 45.9
footprint RES_0816_SUS(My_MAXI)
pins: 1, 2

## RES_45K3_0.125W_1%_0805
designator R?, comment 45K3
Resistenza SMD TE Connectivity Film sottile; Voltage[V]: 100; Tollerance[%]: 0.1; Serie: CPF; Vendor: TE Connectivity; Type: Resistors; Package: 0805; Power[W]: 0.1; Value[OHM ]: 45K3
footprint RES_0816_SUS(My_MAXI)
pins: 1, 2

## RES_45K9_0.125W_1%_0805
designator R?, comment 45K9
Resistenza SMD TE Connectivity Film sottile; Voltage[V]: 100; Tollerance[%]: 0.1; Serie: CPF; Vendor: TE Connectivity; Type: Resistors; Package: 0805; Power[W]: 0.1; Value[OHM ]: 45K9
footprint RES_0816_SUS(My_MAXI)
pins: 1, 2

## RES_46.4_0.125W_1%_0805
designator R?, comment 46.4
Resistenza SMD TE Connectivity Film sottile; Voltage[V]: 100; Tollerance[%]: 0.1; Serie: CPF; Vendor: TE Connectivity; Type: Resistors; Package: 0805; Power[W]: 0.1; Value[OHM ]: 46.4
footprint RES_0816_SUS(My_MAXI)
pins: 1, 2

## RES_46K4_0.125W_1%_0805
designator R?, comment 46K4
Resistenza SMD TE Connectivity Film sottile; Voltage[V]: 100; Tollerance[%]: 0.1; Serie: CPF; Vendor: TE Connectivity; Type: Resistors; Package: 0805; Power[W]: 0.1; Value[OHM ]: 46K4
footprint RES_0816_SUS(My_MAXI)
pins: 1, 2

## RES_47.0_0.125W_1%_0805
designator R?, comment 47
Resistenza SMD TE Connectivity Film sottile; Voltage[V]: 100; Tollerance[%]: 0.1; Serie: CPF; Vendor: TE Connectivity; Type: Resistors; Package: 0805; Power[W]: 0.1; Value[OHM ]: 47
footprint RES_0816_SUS(My_MAXI)
pins: 1, 2

## RES_47.5_0.125W_1%_0805
designator R?, comment 47.5
Resistenza SMD TE Connectivity Film sottile; Voltage[V]: 100; Tollerance[%]: 0.1; Serie: CPF; Vendor: TE Connectivity; Type: Resistors; Package: 0805; Power[W]: 0.1; Value[OHM ]: 47.5
footprint RES_0816_SUS(My_MAXI)
pins: 1, 2

## RES_47K0_0.125W_1%_0805
designator R?, comment 47K0
Resistenza SMD TE Connectivity Film sottile; Voltage[V]: 100; Tollerance[%]: 0.1; Serie: CPF; Vendor: TE Connectivity; Type: Resistors; Package: 0805; Power[W]: 0.1; Value[OHM ]: 47K0
footprint RES_0816_SUS(My_MAXI)
pins: 1, 2

## RES_47K5_0.125W_1%_0805
designator R?, comment 47K5
Resistenza SMD TE Connectivity Film sottile; Voltage[V]: 100; Tollerance[%]: 0.1; Serie: CPF; Vendor: TE Connectivity; Type: Resistors; Package: 0805; Power[W]: 0.1; Value[OHM ]: 47K5
footprint RES_0816_SUS(My_MAXI)
pins: 1, 2

## RES_48.1_0.125W_1%_0805
designator R?, comment 48.1
Resistenza SMD TE Connectivity Film sottile; Voltage[V]: 100; Tollerance[%]: 0.1; Serie: CPF; Vendor: TE Connectivity; Type: Resistors; Package: 0805; Power[W]: 0.1; Value[OHM ]: 48.1
footprint RES_0816_SUS(My_MAXI)
pins: 1, 2

## RES_48.7_0.125W_1%_0805
designator R?, comment 48.7
Resistenza SMD TE Connectivity Film sottile; Voltage[V]: 100; Tollerance[%]: 0.1; Serie: CPF; Vendor: TE Connectivity; Type: Resistors; Package: 0805; Power[W]: 0.1; Value[OHM ]: 48.7
footprint RES_0816_SUS(My_MAXI)
pins: 1, 2

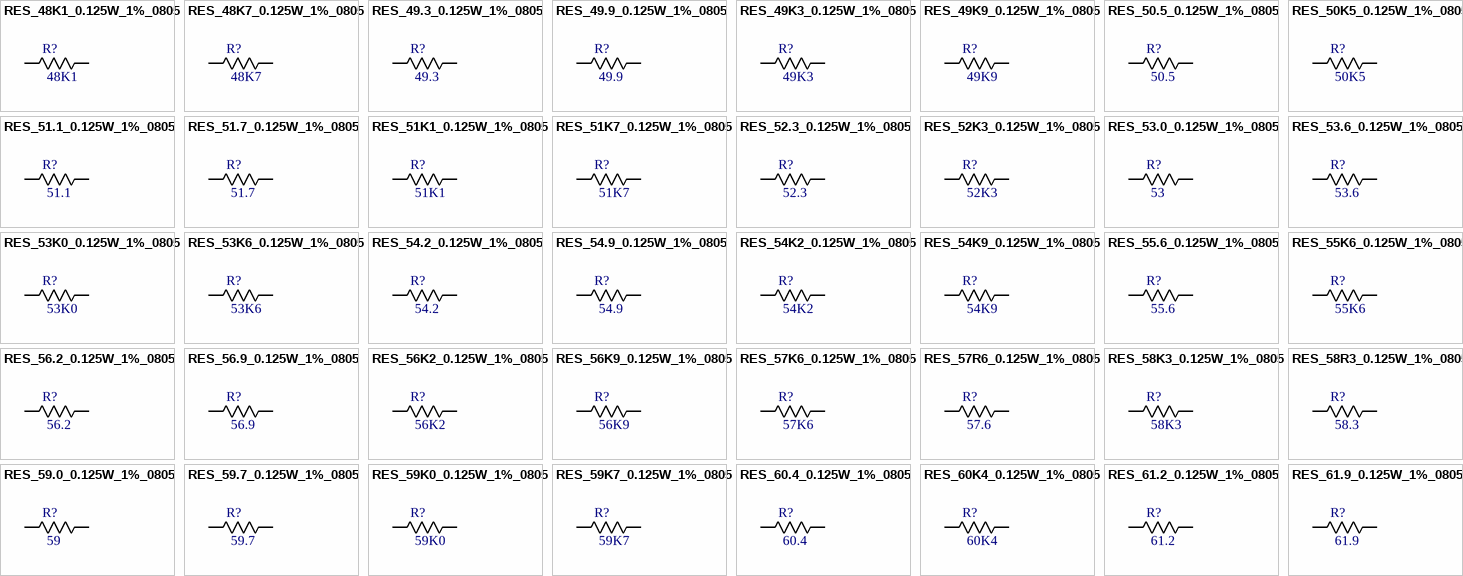
[diagram p12: symbols RES_48K1_0.125W_1%_0805 to RES_61.9_0.125W_1%_0805]

## RES_48K1_0.125W_1%_0805
designator R?, comment 48K1
Resistenza SMD TE Connectivity Film sottile; Voltage[V]: 100; Tollerance[%]: 0.1; Serie: CPF; Vendor: TE Connectivity; Type: Resistors; Package: 0805; Power[W]: 0.1; Value[OHM ]: 48K1
footprint RES_0816_SUS(My_MAXI)
pins: 1, 2

## RES_48K7_0.125W_1%_0805
designator R?, comment 48K7
Resistenza SMD TE Connectivity Film sottile; Voltage[V]: 100; Tollerance[%]: 0.1; Serie: CPF; Vendor: TE Connectivity; Type: Resistors; Package: 0805; Power[W]: 0.1; Value[OHM ]: 48K7
footprint RES_0816_SUS(My_MAXI)
pins: 1, 2

## RES_49.3_0.125W_1%_0805
designator R?, comment 49.3
Resistenza SMD TE Connectivity Film sottile; Voltage[V]: 100; Tollerance[%]: 0.1; Serie: CPF; Vendor: TE Connectivity; Type: Resistors; Package: 0805; Power[W]: 0.1; Value[OHM ]: 49.3
footprint RES_0816_SUS(My_MAXI)
pins: 1, 2

## RES_49.9_0.125W_1%_0805
designator R?, comment 49.9
Resistenza SMD TE Connectivity Film sottile; Voltage[V]: 100; Tollerance[%]: 0.1; Serie: CPF; Vendor: TE Connectivity; Type: Resistors; Package: 0805; Power[W]: 0.1; Value[OHM ]: 49.9
footprint RES_0816_SUS(My_MAXI)
pins: 1, 2

## RES_49K3_0.125W_1%_0805
designator R?, comment 49K3
Resistenza SMD TE Connectivity Film sottile; Voltage[V]: 100; Tollerance[%]: 0.1; Serie: CPF; Vendor: TE Connectivity; Type: Resistors; Package: 0805; Power[W]: 0.1; Value[OHM ]: 49K3
footprint RES_0816_SUS(My_MAXI)
pins: 1, 2

## RES_49K9_0.125W_1%_0805
designator R?, comment 49K9
Resistenza SMD TE Connectivity Film sottile; Voltage[V]: 100; Tollerance[%]: 0.1; Serie: CPF; Vendor: TE Connectivity; Type: Resistors; Package: 0805; Power[W]: 0.1; Value[OHM ]: 49K9
footprint RES_0816_SUS(My_MAXI)
pins: 1, 2

## RES_50.5_0.125W_1%_0805
designator R?, comment 50.5
Resistenza SMD TE Connectivity Film sottile; Voltage[V]: 100; Tollerance[%]: 0.1; Serie: CPF; Vendor: TE Connectivity; Type: Resistors; Package: 0805; Power[W]: 0.1; Value[OHM ]: 50.5
footprint RES_0816_SUS(My_MAXI)
pins: 1, 2

## RES_50K5_0.125W_1%_0805
designator R?, comment 50K5
Resistenza SMD TE Connectivity Film sottile; Voltage[V]: 100; Tollerance[%]: 0.1; Serie: CPF; Vendor: TE Connectivity; Type: Resistors; Package: 0805; Power[W]: 0.1; Value[OHM ]: 50K5
footprint RES_0816_SUS(My_MAXI)
pins: 1, 2

## RES_51.1_0.125W_1%_0805
designator R?, comment 51.1
Resistenza SMD TE Connectivity Film sottile; Voltage[V]: 100; Tollerance[%]: 0.1; Serie: CPF; Vendor: TE Connectivity; Type: Resistors; Package: 0805; Power[W]: 0.1; Value[OHM ]: 51.1
footprint RES_0816_SUS(My_MAXI)
pins: 1, 2

## RES_51.7_0.125W_1%_0805
designator R?, comment 51.7
Resistenza SMD TE Connectivity Film sottile; Voltage[V]: 100; Tollerance[%]: 0.1; Serie: CPF; Vendor: TE Connectivity; Type: Resistors; Package: 0805; Power[W]: 0.1; Value[OHM ]: 51.7
footprint RES_0816_SUS(My_MAXI)
pins: 1, 2

## RES_51K1_0.125W_1%_0805
designator R?, comment 51K1
Resistenza SMD TE Connectivity Film sottile; Voltage[V]: 100; Tollerance[%]: 0.1; Serie: CPF; Vendor: TE Connectivity; Type: Resistors; Package: 0805; Power[W]: 0.1; Value[OHM ]: 51K1
footprint RES_0816_SUS(My_MAXI)
pins: 1, 2

## RES_51K7_0.125W_1%_0805
designator R?, comment 51K7
Resistenza SMD TE Connectivity Film sottile; Voltage[V]: 100; Tollerance[%]: 0.1; Serie: CPF; Vendor: TE Connectivity; Type: Resistors; Package: 0805; Power[W]: 0.1; Value[OHM ]: 51K7
footprint RES_0816_SUS(My_MAXI)
pins: 1, 2

## RES_52.3_0.125W_1%_0805
designator R?, comment 52.3
Resistenza SMD TE Connectivity Film sottile; Voltage[V]: 100; Tollerance[%]: 0.1; Serie: CPF; Vendor: TE Connectivity; Type: Resistors; Package: 0805; Power[W]: 0.1; Value[OHM ]: 52.3
footprint RES_0816_SUS(My_MAXI)
pins: 1, 2

## RES_52K3_0.125W_1%_0805
designator R?, comment 52K3
Resistenza SMD TE Connectivity Film sottile; Voltage[V]: 100; Tollerance[%]: 0.1; Serie: CPF; Vendor: TE Connectivity; Type: Resistors; Package: 0805; Power[W]: 0.1; Value[OHM ]: 52K3
footprint RES_0816_SUS(My_MAXI)
pins: 1, 2

## RES_53.0_0.125W_1%_0805
designator R?, comment 53
Resistenza SMD TE Connectivity Film sottile; Voltage[V]: 100; Tollerance[%]: 0.1; Serie: CPF; Vendor: TE Connectivity; Type: Resistors; Package: 0805; Power[W]: 0.1; Value[OHM ]: 53
footprint RES_0816_SUS(My_MAXI)
pins: 1, 2

## RES_53.6_0.125W_1%_0805
designator R?, comment 53.6
Resistenza SMD TE Connectivity Film sottile; Voltage[V]: 100; Tollerance[%]: 0.1; Serie: CPF; Vendor: TE Connectivity; Type: Resistors; Package: 0805; Power[W]: 0.1; Value[OHM ]: 53.6
footprint RES_0816_SUS(My_MAXI)
pins: 1, 2

## RES_53K0_0.125W_1%_0805
designator R?, comment 53K0
Resistenza SMD TE Connectivity Film sottile; Voltage[V]: 100; Tollerance[%]: 0.1; Serie: CPF; Vendor: TE Connectivity; Type: Resistors; Package: 0805; Power[W]: 0.1; Value[OHM ]: 53K0
footprint RES_0816_SUS(My_MAXI)
pins: 1, 2

## RES_53K6_0.125W_1%_0805
designator R?, comment 53K6
Resistenza SMD TE Connectivity Film sottile; Voltage[V]: 100; Tollerance[%]: 0.1; Serie: CPF; Vendor: TE Connectivity; Type: Resistors; Package: 0805; Power[W]: 0.1; Value[OHM ]: 53K6
footprint RES_0816_SUS(My_MAXI)
pins: 1, 2

## RES_54.2_0.125W_1%_0805
designator R?, comment 54.2
Resistenza SMD TE Connectivity Film sottile; Voltage[V]: 100; Tollerance[%]: 0.1; Serie: CPF; Vendor: TE Connectivity; Type: Resistors; Package: 0805; Power[W]: 0.1; Value[OHM ]: 54.2
footprint RES_0816_SUS(My_MAXI)
pins: 1, 2

## RES_54.9_0.125W_1%_0805
designator R?, comment 54.9
Resistenza SMD TE Connectivity Film sottile; Voltage[V]: 100; Tollerance[%]: 0.1; Serie: CPF; Vendor: TE Connectivity; Type: Resistors; Package: 0805; Power[W]: 0.1; Value[OHM ]: 54.9
footprint RES_0816_SUS(My_MAXI)
pins: 1, 2

## RES_54K2_0.125W_1%_0805
designator R?, comment 54K2
Resistenza SMD TE Connectivity Film sottile; Voltage[V]: 100; Tollerance[%]: 0.1; Serie: CPF; Vendor: TE Connectivity; Type: Resistors; Package: 0805; Power[W]: 0.1; Value[OHM ]: 54K2
footprint RES_0816_SUS(My_MAXI)
pins: 1, 2

## RES_54K9_0.125W_1%_0805
designator R?, comment 54K9
Resistenza SMD TE Connectivity Film sottile; Voltage[V]: 100; Tollerance[%]: 0.1; Serie: CPF; Vendor: TE Connectivity; Type: Resistors; Package: 0805; Power[W]: 0.1; Value[OHM ]: 54K9
footprint RES_0816_SUS(My_MAXI)
pins: 1, 2

## RES_55.6_0.125W_1%_0805
designator R?, comment 55.6
Resistenza SMD TE Connectivity Film sottile; Voltage[V]: 100; Tollerance[%]: 0.1; Serie: CPF; Vendor: TE Connectivity; Type: Resistors; Package: 0805; Power[W]: 0.1; Value[OHM ]: 55.6
footprint RES_0816_SUS(My_MAXI)
pins: 1, 2

## RES_55K6_0.125W_1%_0805
designator R?, comment 55K6
Resistenza SMD TE Connectivity Film sottile; Voltage[V]: 100; Tollerance[%]: 0.1; Serie: CPF; Vendor: TE Connectivity; Type: Resistors; Package: 0805; Power[W]: 0.1; Value[OHM ]: 55K6
footprint RES_0816_SUS(My_MAXI)
pins: 1, 2

## RES_56.2_0.125W_1%_0805
designator R?, comment 56.2
Resistenza SMD TE Connectivity Film sottile; Voltage[V]: 100; Tollerance[%]: 0.1; Serie: CPF; Vendor: TE Connectivity; Type: Resistors; Package: 0805; Power[W]: 0.1; Value[OHM ]: 56.2
footprint RES_0816_SUS(My_MAXI)
pins: 1, 2

## RES_56.9_0.125W_1%_0805
designator R?, comment 56.9
Resistenza SMD TE Connectivity Film sottile; Voltage[V]: 100; Tollerance[%]: 0.1; Serie: CPF; Vendor: TE Connectivity; Type: Resistors; Package: 0805; Power[W]: 0.1; Value[OHM ]: 56.9
footprint RES_0816_SUS(My_MAXI)
pins: 1, 2

## RES_56K2_0.125W_1%_0805
designator R?, comment 56K2
Resistenza SMD TE Connectivity Film sottile; Voltage[V]: 100; Tollerance[%]: 0.1; Serie: CPF; Vendor: TE Connectivity; Type: Resistors; Package: 0805; Power[W]: 0.1; Value[OHM ]: 56K2
footprint RES_0816_SUS(My_MAXI)
pins: 1, 2

## RES_56K9_0.125W_1%_0805
designator R?, comment 56K9
Resistenza SMD TE Connectivity Film sottile; Voltage[V]: 100; Tollerance[%]: 0.1; Serie: CPF; Vendor: TE Connectivity; Type: Resistors; Package: 0805; Power[W]: 0.1; Value[OHM ]: 56K9
footprint RES_0816_SUS(My_MAXI)
pins: 1, 2

## RES_57K6_0.125W_1%_0805
designator R?, comment 57K6
Resistenza SMD TE Connectivity Film sottile; Voltage[V]: 100; Tollerance[%]: 0.1; Serie: CPF; Vendor: TE Connectivity; Type: Resistors; Package: 0805; Power[W]: 0.1; Value[OHM ]: 57K6
footprint RES_0816_SUS(My_MAXI)
pins: 1, 2

## RES_57R6_0.125W_1%_0805
designator R?, comment 57.6
Resistenza SMD TE Connectivity Film sottile; Voltage[V]: 100; Tollerance[%]: 0.1; Serie: CPF; Vendor: TE Connectivity; Type: Resistors; Package: 0805; Power[W]: 0.1; Value[OHM ]: 57.6
footprint RES_0816_SUS(My_MAXI)
pins: 1, 2

## RES_58K3_0.125W_1%_0805
designator R?, comment 58K3
Resistenza SMD TE Connectivity Film sottile; Voltage[V]: 100; Tollerance[%]: 0.1; Serie: CPF; Vendor: TE Connectivity; Type: Resistors; Package: 0805; Power[W]: 0.1; Value[OHM ]: 58K3
footprint RES_0816_SUS(My_MAXI)
pins: 1, 2

## RES_58R3_0.125W_1%_0805
designator R?, comment 58.3
Resistenza SMD TE Connectivity Film sottile; Voltage[V]: 100; Tollerance[%]: 0.1; Serie: CPF; Vendor: TE Connectivity; Type: Resistors; Package: 0805; Power[W]: 0.1; Value[OHM ]: 58.3
footprint RES_0816_SUS(My_MAXI)
pins: 1, 2

## RES_59.0_0.125W_1%_0805
designator R?, comment 59
Resistenza SMD TE Connectivity Film sottile; Voltage[V]: 100; Tollerance[%]: 0.1; Serie: CPF; Vendor: TE Connectivity; Type: Resistors; Package: 0805; Power[W]: 0.1; Value[OHM ]: 59
footprint RES_0816_SUS(My_MAXI)
pins: 1, 2

## RES_59.7_0.125W_1%_0805
designator R?, comment 59.7
Resistenza SMD TE Connectivity Film sottile; Voltage[V]: 100; Tollerance[%]: 0.1; Serie: CPF; Vendor: TE Connectivity; Type: Resistors; Package: 0805; Power[W]: 0.1; Value[OHM ]: 59.7
footprint RES_0816_SUS(My_MAXI)
pins: 1, 2

## RES_59K0_0.125W_1%_0805
designator R?, comment 59K0
Resistenza SMD TE Connectivity Film sottile; Voltage[V]: 100; Tollerance[%]: 0.1; Serie: CPF; Vendor: TE Connectivity; Type: Resistors; Package: 0805; Power[W]: 0.1; Value[OHM ]: 59K0
footprint RES_0816_SUS(My_MAXI)
pins: 1, 2

## RES_59K7_0.125W_1%_0805
designator R?, comment 59K7
Resistenza SMD TE Connectivity Film sottile; Voltage[V]: 100; Tollerance[%]: 0.1; Serie: CPF; Vendor: TE Connectivity; Type: Resistors; Package: 0805; Power[W]: 0.1; Value[OHM ]: 59K7
footprint RES_0816_SUS(My_MAXI)
pins: 1, 2

## RES_60.4_0.125W_1%_0805
designator R?, comment 60.4
Resistenza SMD TE Connectivity Film sottile; Voltage[V]: 100; Tollerance[%]: 0.1; Serie: CPF; Vendor: TE Connectivity; Type: Resistors; Package: 0805; Power[W]: 0.1; Value[OHM ]: 60.4
footprint RES_0816_SUS(My_MAXI)
pins: 1, 2